# Altium footprint library jetson-tx-camera-adapter.PcbLib: 24 footprints (part 1 of 2)
Each footprint in its own frame and in the unit in brackets; x right, y up, seen from the top. Pads: shape width x height; smd on the part's side, far side on the other; paste and mask are expansions set on the pad; w line width, h text height; cw(c..) or ccw(c..) is an arc to the next point about the centre after c.
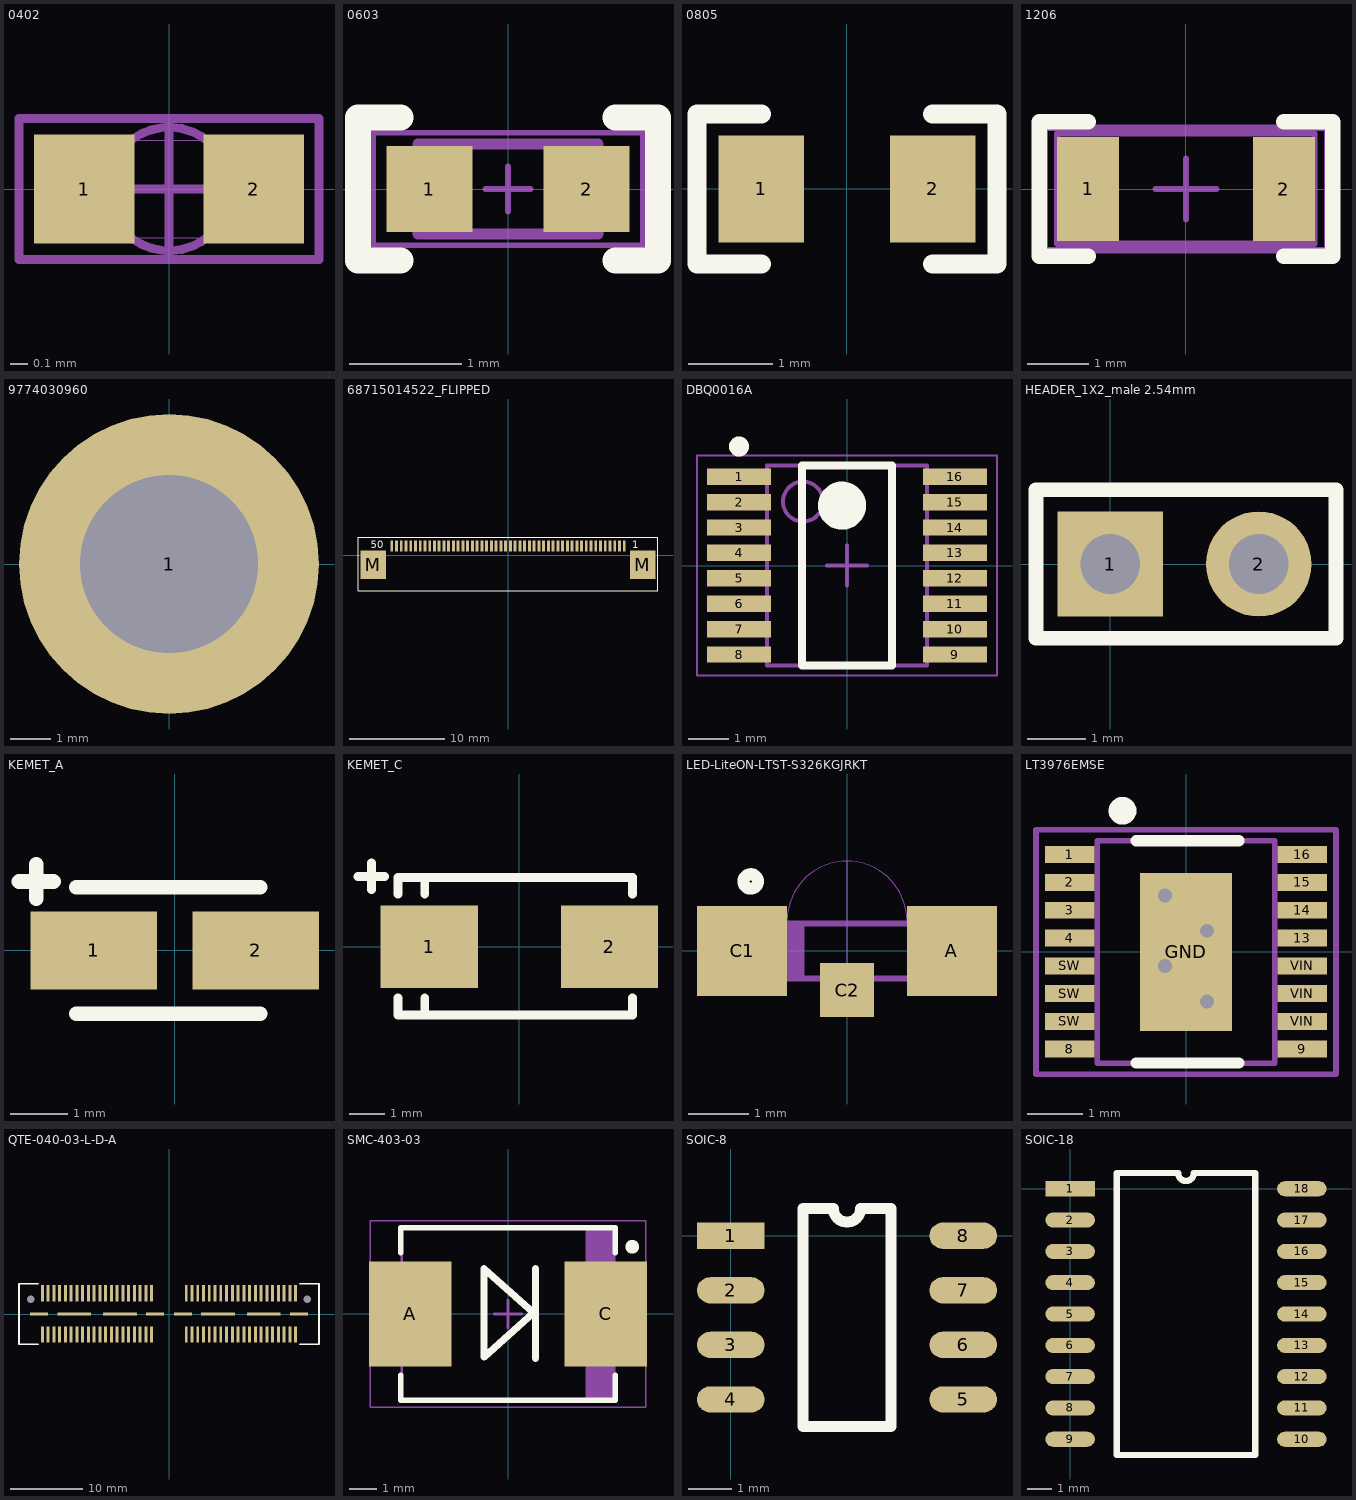
[diagram p0: the footprints below, top view; thin cyan lines are the x and y axes]

## 0402 [mm]
height 0.35
pads (2):
  rect 0.57x0.62 smd: 1(-0.48,0) 2(0.48,0)
Mechanical 13:
  lines w0.001: -0.525,-0.275 0.525,-0.275 0.525,0.275 -0.525,0.275 -0.525,-0.275
Mechanical 15:
  circle w0.05: c0,0 r0.35
  lines w0.05: -0.5,0 0.5,0 ; 0,-0.4 0,0.4 ; -0.85,-0.4 0.85,-0.4 0.85,0.4 -0.85,0.4 -0.85,-0.4
3D body: height 0.5, standoff 0, extent -0.55,-0.3 0.55,0.3

## 0603 [mil]
pads (2):
  rect 30x30 smd: 1(-27.5,0) 2(27.5,0)
Top Overlay:
  lines w9: -37.5,-25 -52.5,-25 -52.5,25 -37.5,25 ; 37.5,-25 52.5,-25 52.5,25 37.5,25
Mechanical 3:
  lines w2: -7.87,0 7.87,0 ; 0,-7.87 0,7.87 ; -47.24,-19.68 -47.24,19.68 47.24,19.68 47.24,-19.68 -47.24,-19.68
Mechanical 13:
  lines w3.94: -31.5,-15.75 31.5,-15.75 31.5,15.75 -31.5,15.75 -31.5,-15.75
3D body: height 18.21, standoff -0.49, extent -32.39,-16.23 32.53,16.25

## 0805 [mil]
pads (2):
  rect 40x50 smd: 1(-40,0) 2(40,0)
Top Overlay:
  lines w9: -40,-35 -70,-35 -70,35 -40,35 ; 40,-35 70,-35 70,35 40,35
3D body: height 24.11, standoff -0.49, extent -41.04,-25.09 37.83,25.1

## 1206 [mm]
pads (2):
  rect 1.016x1.7 smd: 1(-1.6,0) 2(1.6,0)
Top Overlay:
  lines w0.254: -1.6,-1.1 -2.4,-1.1 -2.4,1.1 -1.6,1.1 ; 1.6,-1.1 2.4,-1.1 2.4,1.1 1.6,1.1
Mechanical 13:
  lines w0.1: -2.102,-0.893 -2.102,0.907 2.098,0.907 2.098,-0.893 -2.102,-0.893
Mechanical 15:
  lines w0.1: -0.5,0 0.5,0 ; 0,-0.5 0,0.5 ; -2.3,-1 -2.3,1 -2.2,1 2.3,1 2.3,-1 -2.3,-1
3D body: height 0.95, standoff -0.01, extent -2.102,-0.893 2.098,0.907

## 9774030960 [mm] "SMD Steel Spacer ? 3.3 Internal non stop, Length 3mm"
height 3
pads (1):
  round 7.4 / inner round 0 / far side round 0 hole 4.4 paste-403.566: 1(0,0)
Top Paste:
  region: -3.598,0.3 -3.577,0.566 -3.444,1.119 -3.226,1.644 -2.93,2.128 -2.561,2.561 -2.128,2.93 -1.644,3.226 -1.119,3.444 -0.566,3.577 -0.3,3.598 -0.3,2.231 -0.441,2.217 -0.865,2.089 -1.256,1.88 -1.599,1.599 -1.88,1.256 -2.089,0.865 -2.217,0.441 -2.231,0.3 -2.23,0.3
  region: -0.3,-3.598 -0.566,-3.577 -1.119,-3.444 -1.644,-3.226 -2.128,-2.93 -2.561,-2.561 -2.93,-2.128 -3.226,-1.644 -3.444,-1.119 -3.577,-0.566 -3.598,-0.3 -2.231,-0.3 -2.217,-0.441 -2.089,-0.865 -1.88,-1.256 -1.599,-1.599 -1.256,-1.88 -0.865,-2.089 -0.441,-2.217 -0.3,-2.231 -0.3,-2.23
  region: 3.598,-0.3 3.577,-0.566 3.444,-1.119 3.226,-1.644 2.93,-2.128 2.561,-2.561 2.128,-2.93 1.644,-3.226 1.119,-3.444 0.566,-3.577 0.3,-3.598 0.3,-2.231 0.441,-2.217 0.865,-2.089 1.256,-1.88 1.599,-1.599 1.88,-1.256 2.089,-0.865 2.217,-0.441 2.231,-0.3 2.23,-0.3
  region: 0.3,3.598 0.566,3.577 1.119,3.444 1.644,3.226 2.128,2.93 2.561,2.561 2.93,2.128 3.226,1.644 3.444,1.119 3.577,0.566 3.598,0.3 2.231,0.3 2.217,0.441 2.089,0.865 1.88,1.256 1.599,1.599 1.256,1.88 0.865,2.089 0.441,2.217 0.3,2.231 0.3,2.23
Mechanical 13:
  circle w0.1: c0,0 r3
3D body: height 3.01, standoff -1.39, extent -3,-2.994 2.976,2.994

## 68715014522_FLIPPED [mm] "50 pins"
height 2.1
pads (52):
  rect 0.3x1.2 smd: 1(12.25,0.99) 2(11.75,0.99) 3(11.25,0.99) 4(10.75,0.99) 5(10.25,0.99) 6(9.75,0.99) 7(9.25,0.99) 8(8.75,0.99) 9(8.25,0.99) 10(7.75,0.99) 11(7.25,0.99) 12(6.75,0.99) 13(6.25,0.99) 14(5.75,0.99) 15(5.25,0.99) 16(4.75,0.99) 17(4.25,0.99) 18(3.75,0.99) 19(3.25,0.99) 20(2.75,0.99) 21(2.25,0.99) 22(1.75,0.99) 23(1.25,0.99) 24(0.75,0.99) 25(0.25,0.99) 26(-0.25,0.99) 27(-0.75,0.99) 28(-1.25,0.99) 29(-1.75,0.99) 30(-2.25,0.99) 31(-2.75,0.99) 32(-3.25,0.99) 33(-3.75,0.99) 34(-4.25,0.99) 35(-4.75,0.99) 36(-5.25,0.99) 37(-5.75,0.99) 38(-6.25,0.99) 39(-6.75,0.99) 40(-7.25,0.99) 41(-7.75,0.99) 42(-8.25,0.99) 43(-8.75,0.99) 44(-9.25,0.99) 45(-9.75,0.99) 46(-10.25,0.99) 47(-10.75,0.99) 48(-11.25,0.99) 49(-11.75,0.99) 50(-12.25,0.99)
  rect 2.7x3 smd: M(-14.18,-0.99) M(14.18,-0.99)
Top Overlay:
  lines w0.127: -15.8,-3.71 15.8,-3.71 15.8,1.89 -15.8,1.89 -15.8,-3.71
  text "50" at -14.478,0.762 h0.76
  text "1" at 13.081,0.762 h0.76
3D body: height 2.06, standoff -0.04, extent -15.7,-3.71 15.7,1.39

## DBQ0016A [mm]
height 1.75
pads (16):
  rect 1.6x0.41 smd: 1(-2.7,2.222) 2(-2.7,1.587) 3(-2.7,0.953) 4(-2.7,0.318) 5(-2.7,-0.318) 6(-2.7,-0.953) 7(-2.7,-1.587) 8(-2.7,-2.222) 9(2.7,-2.222) 10(2.7,-1.587) 11(2.7,-0.953) 12(2.7,-0.318) 13(2.7,0.318) 14(2.7,0.953) 15(2.7,1.587) 16(2.7,2.222)
Top Overlay:
  circle w0.6: c-0.125,1.5 r0.3
  circle w0.25: c-2.7,2.977 r0.125
  lines w0.2: -1.125,-2.5 1.125,-2.5 1.125,2.5 -1.125,2.5 -1.125,-2.5
Mechanical 13:
  circle w0.1: c-1.1,1.6 r0.5
  lines w0.1: -2,-2.5 2,-2.5 2,2.5 -2,2.5 -2,-2.5
Mechanical 15:
  lines w0.05: -3.75,-2.75 3.75,-2.75 3.75,2.75 -3.75,2.75 -3.75,-2.75
  lines w0.1: -0.5,0 0.5,0 ; 0,-0.5 0,0.5
3D body: height 1.75, standoff 0.1, extent -2,-2.5 2,2.5

## HEADER_1X2_male 2.54mm [mm] "Pinhead male 1x2 pitch 2.54mm straight"
pads (2):
  rect 1.8x1.8 hole 1.02: 1(0,0)
  round 1.8 hole 1.02: 2(2.54,0)
Top Overlay:
  lines w0.254: -1.27,-1.27 3.86,-1.27 3.86,1.27 -1.27,1.27 -1.27,-1.27
3D body: height 8.33, standoff -2.87, extent -1.17,-1.246 3.91,1.253

## KEMET_A [mm] "Kemet A size package. Low desity level"
height 1.6
pads (2):
  rect 2.2x1.35 smd: 1(-1.41,0) 2(1.41,0)
Top Overlay:
  lines w0.254: -2.71,1.2 -2.11,1.2 ; -2.41,0.9 -2.41,1.5 ; -1.71,-1.1 1.49,-1.1 ; -1.71,1.1 1.49,1.1
3D body: height 1.81, standoff 0.01, extent -1.81,-0.9 1.59,0.9

## KEMET_C [mm] "Kemet C size package. Low desity level"
height 2.5
pads (2):
  rect 2.77x2.35 smd: 1(-2.57,0) 2(2.57,0)
Top Overlay:
  lines w0.254: -4.601,2 -3.839,2 ; -4.22,1.619 -4.22,2.381 ; -3.458,-1.467 -3.458,-1.95 3.23,-1.95 3.23,-1.467 ; -3.458,1.492 -3.458,1.975 3.23,1.975 3.23,1.492 ; -2.696,-1.925 -2.696,-1.467 ; -2.696,1.492 -2.696,1.95
3D body: height 2.81, standoff 0.01, extent -3.245,-1.725 3.055,1.775

## LED-LiteON-LTST-S326KGJRKT [mm] "LED LiteON LTST-S326KGJRKT Red Green"
height 1
pads (3):
  rect 1.5x1.5 smd: A(1.75,0) C1(-1.75,0)
  rect 0.9x0.9 smd: C2(0,-0.65)
Top Overlay:
  circle w0.2: c-1.605,1.16 r0.12
Mechanical 2:
  lines w0.01: -1,0.5 cw(c0,0.5) 1,0.5 ; 0,-0.5 0,1.5 ; -1.5,-0.5 -1.5,0.5 1.5,0.5 1.5,-0.5 -1.5,-0.5
Mechanical 3:
  lines w0.1: -1.355,-0.455 -1.355,0.455 ; -1.255,-0.455 -1.255,0.455 ; -1.155,-0.455 -1.155,0.455 ; -1.055,-0.455 -1.055,0.455 ; -0.955,-0.455 -0.955,0.455 ; -0.855,-0.455 -0.855,0.455 ; -0.755,-0.455 -0.755,0.455 ; -1.455,-0.455 1.455,-0.455 1.455,0.455 -1.455,0.455 ; -1.455,-0.455 -1.455,0.455 ; -1.455,-0.455 -1.455,0.455
3D body: height 1, standoff 0, extent -1.5,-0.5 0,0.5
3D body: height 0.9, standoff 0, extent -1,0.5 0,1.5
3D body: height 1, standoff 0, extent 0,-0.5 1.5,0.5
3D body: height 0.9, standoff 0, extent 0,0.5 1,1.5

## LT3976EMSE [mm]
height 1.1
pads (17):
  rect 0.889x0.305 smd: 1(-2.095,1.75) 2(-2.095,1.25) 3(-2.095,0.75) 4(-2.095,0.25) 8(-2.095,-1.75) 9(2.095,-1.75) 13(2.095,0.25) 14(2.095,0.75) 15(2.095,1.25) 16(2.095,1.75) SW(-2.095,-1.25) SW(-2.095,-0.75) SW(-2.095,-0.25) VIN(2.095,-1.25) VIN(2.095,-0.75) VIN(2.095,-0.25)
  rect 1.651x2.845 smd: GND(0,0)
via 0.381,-0.889 diameter 0.6 hole 0.25
via -0.381,-0.254 diameter 0.6 hole 0.25
via 0.381,0.381 diameter 0.6 hole 0.25
via -0.381,1.016 diameter 0.6 hole 0.25
Top Overlay:
  circle w0.25: c-1.143,2.54 r0.125
  lines w0.2: -0.895,-2 0.954,-2 ; -0.895,2 0.954,2
Mechanical 13:
  lines w0.1: -1.6,-2 1.6,-2 1.6,2 -1.6,2 -1.6,-2
Mechanical 15:
  lines w0.1: -0.5,0 0.5,0 ; 0,-0.5 0,0.5 ; -2.7,-2.2 2.7,-2.2 2.7,2.2 -0.5,2.2 -2.7,2.2 -2.7,-2.2
3D body: height 1.1, standoff 0.1, extent -1.651,-2.032 1.651,2.032

## QTE-040-03-L-D-A [mm]
pads (90):
  round 0 hole 1.02 unplated: 0(-19.24,2.03) 0(19.24,2.03)
  rect 0.41x2.27 smd: 1(-17.603,2.87) 2(-17.603,-2.86) 3(-16.803,2.87) 4(-16.803,-2.86) 5(-16.003,2.87) 6(-16.003,-2.86) 7(-15.203,2.87) 8(-15.203,-2.86) 9(-14.403,2.87) 10(-14.403,-2.86) 11(-13.603,2.87) 12(-13.603,-2.86) 13(-12.803,2.87) 14(-12.803,-2.86) 15(-12.003,2.87) 16(-12.003,-2.86) 17(-11.203,2.87) 18(-11.203,-2.86) 19(-10.403,2.87) 20(-10.403,-2.86) 21(-9.603,2.87) 22(-9.603,-2.86) 23(-8.803,2.87) 24(-8.803,-2.86) 25(-8.003,2.87) 26(-8.003,-2.86) 27(-7.203,2.87) 28(-7.203,-2.86) 29(-6.403,2.87) 30(-6.403,-2.86) 31(-5.603,2.87) 32(-5.603,-2.86) 33(-4.803,2.87) 34(-4.803,-2.86) 35(-4.003,2.87) 36(-4.003,-2.86) 37(-3.203,2.87) 38(-3.203,-2.86) 39(-2.403,2.87) 40(-2.403,-2.86) 41(2.4,2.87) 42(2.4,-2.86) 43(3.2,2.87) 44(3.2,-2.86) 45(4,2.87) 46(4,-2.86) 47(4.8,2.87) 48(4.8,-2.86) 49(5.6,2.87) 50(5.6,-2.86) 51(6.4,2.87) 52(6.4,-2.86) 53(7.2,2.87) 54(7.2,-2.86) 55(8,2.87) 56(8,-2.86) 57(8.8,2.87) 58(8.8,-2.86) 59(9.6,2.87) 60(9.6,-2.86) 61(10.4,2.87) 62(10.4,-2.86) 63(11.2,2.87) 64(11.2,-2.86) 65(12,2.87) 66(12,-2.86) 67(12.8,2.87) 68(12.8,-2.86) 69(13.6,2.87) 70(13.6,-2.86) 71(14.4,2.87) 72(14.4,-2.86) 73(15.2,2.87) 74(15.2,-2.86) 75(16,2.87) 76(16,-2.86) 77(16.8,2.87) 78(16.8,-2.86) 79(17.6,2.87) 80(17.6,-2.86)
  rect 2.54x0.43 smd: 81(-18.069,-0.002) 84(-1.942,-0.002) 85(1.942,-0.001) 88(18.069,-0.001)
  rect 4.7x0.43 smd: 82(-13.178,-0.002) 83(-6.832,-0.001) 86(6.832,-0.001) 87(13.178,-0.001)
Top Overlay:
  lines w0.254: -18.2,-4.2 -20.86,-4.2 -20.86,4.2 -18.2,4.2 ; 18.2,-4.2 20.86,-4.2 20.86,4.2 18.2,4.2
3D body: height 10.06, standoff -0.47, extent -20.035,-3.556 19.97,3.556

## SMC-403-03 [mm] "SMC-403-03 package"
height 2.13
pads (2):
  rect 3x3.81 smd: A(-3.56,0) C(3.56,0)
Top Overlay:
  circle w0.25: c4.525,2.45 r0.125
  lines w0.2: -3.9,-2.225 -3.9,-3.15 3.9,-3.15 3.9,-2.225 ; -3.9,2.225 -3.9,3.15 3.9,3.15 3.9,2.225
  lines w0.254: 1,-1.625 1,1.65 ; -0.875,-1.575 0.925,0.05 -0.875,1.65 -0.875,-1.575
Mechanical 13:
  rectangle: 2.832,-3.125 3.875,3.125
  lines w0.1: -3.875,-3.125 -3.875,3.125 3.875,3.125 3.875,-3.125 -3.875,-3.125
Mechanical 15:
  lines w0.05: -5.025,-3.4 -5.025,3.4 5.025,3.4 5.025,-3.4 -5.025,-3.4
  lines w0.1: -0.5,0 0.5,0 ; 0,-0.5 0,0.5
3D body: height 2.2, standoff 0, extent -4.125,-3.125 3.875,2.825

## SOIC-8 [mil]
pads (8):
  rect 62x24 smd: 1(0,0)
  oval 62x24 smd: 2(0,-50) 3(0,-100) 4(0,-150) 5(213,-150) 6(213,-100) 7(213,-50) 8(213,0)
Top Overlay:
  lines w10: 66,-175 147,-175 147,25 119,25 cw(c106.5,25) 94,25 66,25 66,-175
3D body: height 68.7, standoff -0.31, extent -17.03,-173.43 227.03,23.42

## SOIC-18 [mil]
pads (18):
  rect 79x24 smd: 1(0,0)
  oval 79x24 smd: 2(0,-50) 3(0,-100) 4(0,-150) 5(0,-200) 6(0,-250) 7(0,-300) 8(0,-350) 9(0,-400) 10(370,-400) 11(370,-350) 12(370,-300) 13(370,-250) 14(370,-200) 15(370,-150) 16(370,-100) 17(370,-50) 18(370,0)
Top Overlay:
  lines w10: 74.5,-425 74.5,25 172.5,25 ccw(c185,25) 197.5,25 295.5,25 295.5,-425 74.5,-425
3D body: height 104.33, standoff 0, extent -12.75,-426.96 392.76,26.97